# Altium integrated library ADLib_V16.IntLib: 56 symbols
Pins are listed as number, name and electrical type; pins without a type are passive.

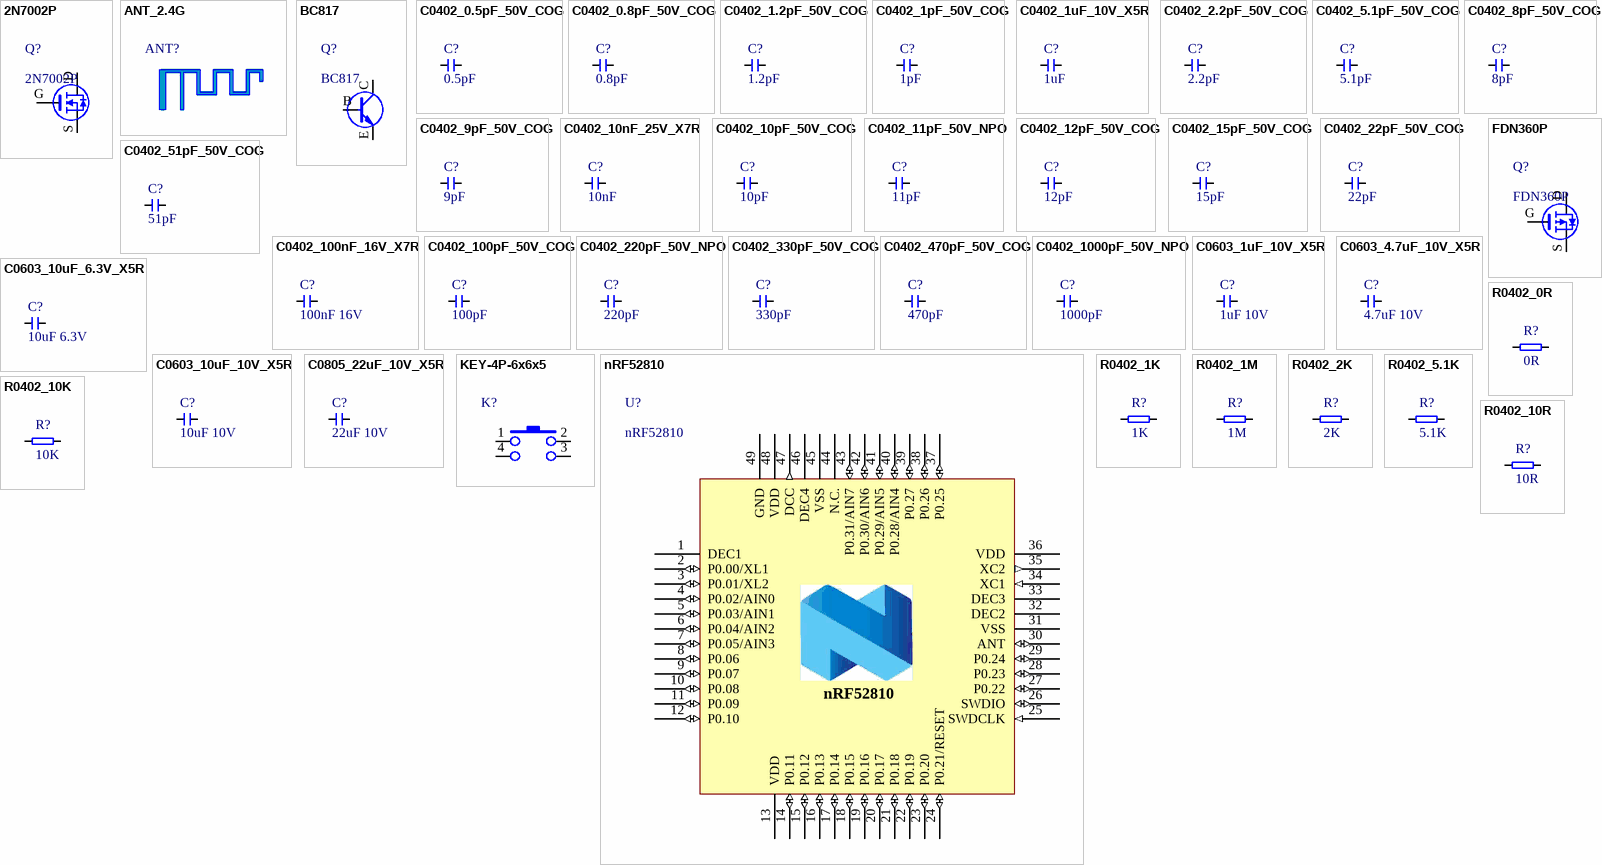
[diagram p0: symbols 2N7002P to R0402_10R]

## 2N7002P
designator Q?
TRS-FET/MOS N SOT23 ##2N7002P,215  NXP N; Part Number: 280400708-00000-10; SMT: YES; Price(RMB): 0.06; RoHS: YES; Datasheet(URL): https://pan.baidu.com/s/1gf8buuv; Common: YES; Supplier: NXP
footprint SOT23-GSD (SOT23, 3-Leads, Body 2.90x2.45mm, Pitch 0.95mm, IPC Medium Density)
pins: D, G, S

## ANT_2.4G
designator ANT?  (value not drawn)
Planar Inverted F Antenna
footprint ANT2G4-PCB-F (Inverted F antenna for 2402-2480Mhz)
pins: 1, 2

## BC817
designator Q?
TRS-BP NPN SOT23 BC817; Part Number: 280400175-00000-10; SMT: YES; Price(RMB): 0.06; RoHS: YES; Datasheet(URL): https://pan.baidu.com/s/1i5cjldz; Common: YES; Supplier: Any Brand
footprint SOT23-BEC (SOT23, 3-Leads, Body 2.90x2.45mm, Pitch 0.95mm, IPC Medium Density)
pins: B, C, E

## C0402_0.5pF_50V_COG
designator C?, comment 0.5pF
CAP-CCER 0.5 pF W 50 VDC 0402 COG ##GRM1; Part Number: 280202818-00000-10; SMT: YES; Common: NO; Price(RMB): 0.01; Supplier: Murata; RoHS: YES; Datasheet(URL): http://pan.baidu.com/s/1pLn1S19
footprint C0402 (Chip Capacitor, 2-Leads, Body 1.00x0.50mm, IPC Medium Density)
pins: 1, 2

## C0402_0.8pF_50V_COG
designator C?, comment 0.8pF
CAP-CCER 0.8 pF B 50 VDC 0402 COG ##GRM1; Part Number: 280203304-00000-10; Common: NO; SMT: YES; Price(RMB): 0.01; Datasheet(URL): http://pan.baidu.com/s/1pLn1S19; RoHS: YES; Supplier: Murata
footprint C0402 (Chip Capacitor, 2-Leads, Body 1.00x0.50mm, IPC Medium Density)
pins: 1, 2

## C0402_1.2pF_50V_COG
designator C?, comment 1.2pF
CAP-CCER 1.2 pF C 50 VDC 0402 COG ##GRM1; Part Number: 280200750-00000-10; SMT: YES; Common: NO; Price(RMB): 0.01; Supplier: Murata; RoHS: YES; Datasheet(URL): http://pan.baidu.com/s/1pLn1S19
footprint C0402 (Chip Capacitor, 2-Leads, Body 1.00x0.50mm, IPC Medium Density)
pins: 1, 2

## C0402_1pF_50V_COG
designator C?, comment 1pF
CAP-CCER 1 pF C 50 VDC 0402 COG ##GRM155; Part Number: 280202853-00000-10; SMT: YES; Common: NO; Price(RMB): 0.01; Supplier: Murata; RoHS: YES; Datasheet(URL): http://pan.baidu.com/s/1pLn1S19
footprint C0402 (Chip Capacitor, 2-Leads, Body 1.00x0.50mm, IPC Medium Density)
pins: 1, 2

## C0402_1uF_10V_X5R
designator C?, comment 1uF
CAP-CCER 1 uF K 10 VDC 0402 X5R ##GRM155; Part Number: 280202596-00000-10; Common: YES; Price(RMB): 0.01; SMT: YES; Supplier: Murata; RoHS: YES; Datasheet(URL): http://pan.baidu.com/s/1pLn1S19
footprint C0402 (Chip Capacitor, 2-Leads, Body 1.00x0.50mm, IPC Medium Density)
pins: 1, 2

## C0402_2.2pF_50V_COG
designator C?, comment 2.2pF
CAP-CCER 2.2 pF C 50 VDC 0402 COG; Part Number: 280200791-00000-10; SMT: YES; Common: NO; Price(RMB): 0.01; Supplier: Murata; RoHS: YES; Datasheet(URL): http://pan.baidu.com/s/1pLn1S19
footprint C0402 (Chip Capacitor, 2-Leads, Body 1.00x0.50mm, IPC Medium Density)
pins: 1, 2

## C0402_5.1pF_50V_COG
designator C?, comment 5.1pF
CAP-CCER 5.1 pF B 50 VDC 0402 SD 500R07S; Part Number: 280202923-00000-10; SMT: YES; Common: NO; Price(RMB): 0.01; Supplier: Murata; RoHS: YES; Datasheet(URL): http://pan.baidu.com/s/1pLn1S19
footprint C0402 (Chip Capacitor, 2-Leads, Body 1.00x0.50mm, IPC Medium Density)
pins: 1, 2

## C0402_8pF_50V_COG
designator C?, comment 8pF
CAP-CCER 8 pF C 50 VDC 0402 COG ##GRM155; Part Number: 280200885-00000-10; SMT: YES; Price(RMB): 0.01; Supplier: Murata; RoHS: YES; Common: YES; Datasheet(URL): http://pan.baidu.com/s/1pLn1S19
footprint C0402 (Chip Capacitor, 2-Leads, Body 1.00x0.50mm, IPC Medium Density)
pins: 1, 2

## C0402_9pF_50V_COG
designator C?, comment 9pF
CAP-CCER 9 pF D 50 VDC 0402 COG ##GRM155; Part Number: 280200896-00000-10; SMT: YES; Common: NO; Price(RMB): 0.01; Supplier: Murata; RoHS: YES; Datasheet(URL): http://pan.baidu.com/s/1pLn1S19
footprint C0402 (Chip Capacitor, 2-Leads, Body 1.00x0.50mm, IPC Medium Density)
pins: 1, 2

## C0402_10nF_25V_X7R
designator C?, comment 10nF
CAP-CCER 10 nF K 25 VDC 0402 X7R ##GRM15; Part Number: 280202443-00000-10; Common: NO; SMT: YES; Price(RMB): 0.01; Supplier: Murata; RoHS: YES; Datasheet(URL): http://pan.baidu.com/s/1pLn1S19
footprint C0402 (Chip Capacitor, 2-Leads, Body 1.00x0.50mm, IPC Medium Density)
pins: 1, 2

## C0402_10pF_50V_COG
designator C?, comment 10pF
CAP-CCER 10 pF J 50 VDC 0402 COG ##GRM15; Part Number: 280202735-00000-10; SMT: YES; Price(RMB): 0.01; Supplier: Murata; RoHS: YES; Common: YES; Datasheet(URL): http://pan.baidu.com/s/1pLn1S19
footprint C0402 (Chip Capacitor, 2-Leads, Body 1.00x0.50mm, IPC Medium Density)
pins: 1, 2

## C0402_11pF_50V_NPO
designator C?, comment 11pF
CAP-CCER 11 pF G 50 VDC 0402 NPO 500R07S; Part Number: 280202891-00000-10; SMT: YES; Common: NO; Price(RMB): 0.01; Supplier: Murata; RoHS: YES; Datasheet(URL): http://pan.baidu.com/s/1pLn1S19
footprint C0402 (Chip Capacitor, 2-Leads, Body 1.00x0.50mm, IPC Medium Density)
pins: 1, 2

## C0402_12pF_50V_COG
designator C?, comment 12pF
CAP-CCER 12 pF G 50 VDC 0402 COG ##GRM15; Part Number: 280203317-00000-10; Common: YES; Price(RMB): 0.01; RoHS: YES; SMT: YES; Supplier: Murata; Datasheet(URL): http://pan.baidu.com/s/1pLn1S19
footprint C0402 (Chip Capacitor, 2-Leads, Body 1.00x0.50mm, IPC Medium Density)
pins: 1, 2

## C0402_15pF_50V_COG
designator C?, comment 15pF
CAP-CCER 15 pF J 50 VDC 0402 COG ##GRM15; Part Number: 280200756-00000-10; Common: NO; SMT: YES; Price(RMB): 0.01; RoHS: YES; Supplier: Murata; Datasheet(URL): http://pan.baidu.com/s/1pLn1S19
footprint C0402 (Chip Capacitor, 2-Leads, Body 1.00x0.50mm, IPC Medium Density)
pins: 1, 2

## C0402_22pF_50V_COG
designator C?, comment 22pF
CAP-CCER 22 pF J 50 VDC 0402 COG ##GRM15; Part Number: 280202852-00000-10; Common: NO; SMT: YES; Price(RMB): 0.01; RoHS: YES; Supplier: Murata; Datasheet(URL): http://pan.baidu.com/s/1pLn1S19
footprint C0402 (Chip Capacitor, 2-Leads, Body 1.00x0.50mm, IPC Medium Density)
pins: 1, 2

## C0402_51pF_50V_COG
designator C?, comment 51pF
CAP-CCER 51 pF J 50 VDC 0402 COG GRM1555; Part Number: 280200854-00000-10; Common: NO; SMT: YES; Price(RMB): 0.01; RoHS: YES; Supplier: Murata; Datasheet(URL): http://pan.baidu.com/s/1pLn1S19
footprint C0402 (Chip Capacitor, 2-Leads, Body 1.00x0.50mm, IPC Medium Density)
pins: 1, 2

## C0402_100nF_16V_X7R
designator C?, comment 100nF 16V
CAP-CCER 100 nF K 16 VDC 0402 X7R ##GRM1; Part Number: 280200343-00000-10; Common: YES; Price(RMB): 0.01; SMT: YES; RoHS: YES; Supplier: Murata; Datasheet(URL): http://pan.baidu.com/s/1pLn1S19
footprint C0402 (Chip Capacitor, 2-Leads, Body 1.00x0.50mm, IPC Medium Density)
pins: 1, 2

## C0402_100pF_50V_COG
designator C?, comment 100pF
CAP-CCER 100 pF J 50 VDC 0402 COG ##GRM1; Part Number: 280200588-00000-10; Common: YES; Price(RMB): 0.01; SMT: YES; Supplier: Murata; RoHS: YES; Datasheet(URL): http://pan.baidu.com/s/1pLn1S19
footprint C0402 (Chip Capacitor, 2-Leads, Body 1.00x0.50mm, IPC Medium Density)
pins: 1, 2

## C0402_220pF_50V_NPO
designator C?, comment 220pF
CAP-CCER 220 pF J 50 VDC 0402 NPO ##GRM1; Part Number: 280200176-00000-10; Common: NO; SMT: YES; Price(RMB): 0.01; Supplier: Murata; RoHS: YES; Datasheet(URL): http://pan.baidu.com/s/1pLn1S19
footprint C0402 (Chip Capacitor, 2-Leads, Body 1.00x0.50mm, IPC Medium Density)
pins: 1, 2

## C0402_330pF_50V_COG
designator C?, comment 330pF
CAP-CCER 330 pF J 50 VDC 0402 COG ##GRM1; Part Number: 280200818-00000-10; Common: NO; SMT: YES; Price(RMB): 0.01; Supplier: Murata; RoHS: YES; Datasheet(URL): http://pan.baidu.com/s/1pLn1S19
footprint C0402 (Chip Capacitor, 2-Leads, Body 1.00x0.50mm, IPC Medium Density)
pins: 1, 2

## C0402_470pF_50V_COG
designator C?, comment 470pF
CAP-CCER 470 pF J 50 VDC 0402 COG ##GRM1; Part Number: 280200840-00000-10; Common: NO; SMT: YES; Price(RMB): 0.01; Supplier: Murata; RoHS: YES; Datasheet(URL): http://pan.baidu.com/s/1pLn1S19
footprint C0402 (Chip Capacitor, 2-Leads, Body 1.00x0.50mm, IPC Medium Density)
pins: 1, 2

## C0402_1000pF_50V_NPO
designator C?, comment 1000pF
CAP-CCER 1000 pF J 50 VDC 0402 NPO ##GRM; Part Number: 280200074-00000-10; Common: NO; SMT: YES; Price(RMB): 0.01; Supplier: Murata; RoHS: YES; Datasheet(URL): http://pan.baidu.com/s/1pLn1S19
footprint C0402 (Chip Capacitor, 2-Leads, Body 1.00x0.50mm, IPC Medium Density)
pins: 1, 2

## C0603_1uF_10V_X5R
designator C?, comment 1uF 10V
CAP-CCER 1 uF K 10 VDC 0603 X5R ##GRM188; Part Number: 280203310-00000-10; SMT: YES; Price(RMB): 0.015; RoHS: YES; Datasheet(URL): http://pan.baidu.com/s/1pLn1S19; Common: YES; Supplier: Murata
footprint C0603 (Chip Capacitor, 2-Leads, Body 1.60x0.80mm, IPC Medium Density)
pins: 1, 2

## C0603_4.7uF_10V_X5R
designator C?, comment 4.7uF 10V
CAP-CCER 4.7 uF K 10 VDC 0603 X5R ##GRM1; Part Number: 280202712-00000-10; SMT: YES; Price(RMB): 0.05; RoHS: YES; Datasheet(URL): http://pan.baidu.com/s/1pLn1S19; Common: YES; Supplier: Murata
footprint C0603 (Chip Capacitor, 2-Leads, Body 1.60x0.80mm, IPC Medium Density)
pins: 1, 2

## C0603_10uF_6.3V_X5R
designator C?, comment 10uF 6.3V
CAP-CCER 10 uF M 6.3 VDC 0603 X5R ##GRM1; Part Number: 280202589-00000-70; SMT: YES; Price(RMB): 0.05; RoHS: YES; Datasheet(URL): http://pan.baidu.com/s/1pLn1S19; Common: YES; Supplier: Murata
footprint C0603 (Chip Capacitor, 2-Leads, Body 1.60x0.80mm, IPC Medium Density)
pins: 1, 2

## C0603_10uF_10V_X5R
designator C?, comment 10uF 10V
CAP-CCER 10 uF K 10 VDC 0603 X5R ##GRM18; Part Number: 280203301-00000-10; SMT: YES; Price(RMB): 0.05; RoHS: YES; Datasheet(URL): http://pan.baidu.com/s/1pLn1S19; Common: YES; Supplier: Murata
footprint C0603 (Chip Capacitor, 2-Leads, Body 1.60x0.80mm, IPC Medium Density)
pins: 1, 2

## C0805_22uF_10V_X5R
designator C?, comment 22uF 10V
CAP-CCER 22 uF M 10 VDC 0805 X5R ##GRM21; Part Number: 280203306-00000-10; SMT: YES; Price(RMB): 0.12; RoHS: YES; Datasheet(URL): http://pan.baidu.com/s/1pLn1S19; Common: YES; Supplier: Murata
footprint C0805 (Chip Capacitor, 2-Leads, Body 2.00x1.25mm, IPC Medium Density)
pins: 1, 2

## FDN360P
designator Q?
TRS-FET/MOS P SOT23 FDN360P ##FAIRCHILD; Part Number: 280400690-00000-10; SMT: YES; Price(RMB): 0.43; RoHS: YES; Datasheet(URL): https://pan.baidu.com/s/1i4RtThN; Common: YES; Supplier: FAIRCHILD
footprint SOT23-GSD (SOT23, 3-Leads, Body 2.90x2.45mm, Pitch 0.95mm, IPC Medium Density)
pins: D, G, S

## KEY-4P-6x6x5
designator K?  (value not drawn)
SW-TACT SMD,KEY，Button,4 PIN,6x6x5mm; Part Number: 240400182-00001-10; SMT: YES; Price(RMB): 0.13; RoHS: YES; Datasheet(URL): https://pan.baidu.com/s/1eSEOYAI; Common: YES; Supplier: Any Brand
footprint KEY-4P-6x6x5 (KEY SMT 6x6x5mm)
pins: 1, 2, 3, 4

## nRF52810
designator U?
O-IC RF nRF52810 QFN48 6x6mm #nRF52810-QFAA; SMT: YES; Common: NO; Price(RMB): 6.0; RoHS: YES; Datasheet(URL): https://pan.baidu.com/s/1dFetmLV; Supplier: Nordic
footprint QFN48P6X6TP46X46 (QFN, 48-Leads, Body 6.00x6.00mm, Pitch 0.40mm, Thermal Pad 4.60x4.60mm, IPC Medium Density)
pins: 1 DEC1 (power), 2 P0.00/XL1 (io), 3 P0.01/XL2 (io), 4 P0.02/AIN0 (io), 5 P0.03/AIN1 (io), 6 P0.04/AIN2 (io), 7 P0.05/AIN3 (io), 8 P0.06 (io), 9 P0.07 (io), 10 P0.08 (io), 11 P0.09 (io), 12 P0.10 (io), 13 VDD (power), 14 P0.11 (io), 15 P0.12 (io), 16 P0.13 (io), 17 P0.14 (io), 18 P0.15 (io), 19 P0.16 (io), 20 P0.17 (io), 21 P0.18 (io), 22 P0.19 (io), 23 P0.20 (io), 24 P0.21/RESET (io), 25 SWDCLK (in), 26 SWDIO (io), 27 P0.22 (io), 28 P0.23 (io), 29 P0.24 (io), 30 ANT (io), 31 VSS (power), 32 DEC2 (power), 33 DEC3 (power), 34 XC1 (in), 35 XC2 (out), 36 VDD (power), 37 P0.25 (io), 38 P0.26 (io), 39 P0.27 (io), 40 P0.28/AIN4 (io), 41 P0.29/AIN5 (io), 42 P0.30/AIN6 (io), 43 P0.31/AIN7 (io), 44 N.C. (power), 45 VSS (power), 46 DEC4 (power), 47 DCC (out), 48 VDD (power), 49 GND (power)

## R0402_0R
designator R?, comment 0R
RES TFC 0 ohm 0402 J 1/16W; Part Number: 280102281-00000-10; SMT: YES; Price(RMB): 0.0024; RoHS: YES; Datasheet(URL): https://pan.baidu.com/s/1o7BAG4M; Common: YES; Supplier: Any brand
footprint R0402 (Chip Resistor, 2-Leads, Body 1.00x0.50mm, IPC Medium Density)
pins: 1, 2

## R0402_1K
designator R?, comment 1K
RES TFC 1 Kohm 0402 J 1/16W; Part Number: 280100925-00000-10; SMT: YES; Price(RMB): 0.0024; RoHS: YES; Datasheet(URL): https://pan.baidu.com/s/1o7BAG4M; Common: YES; Supplier: Any brand
footprint R0402 (Chip Resistor, 2-Leads, Body 1.00x0.50mm, IPC Medium Density)
pins: 1, 2

## R0402_1M
designator R?, comment 1M
RES TFC 1 Mohm 0402 J 1/16W; Part Number: 280100948-00000-10; SMT: YES; Common: NO; Price(RMB): 0.0024; RoHS: YES; Datasheet(URL): https://pan.baidu.com/s/1o7BAG4M; Supplier: Any brand
footprint R0402 (Chip Resistor, 2-Leads, Body 1.00x0.50mm, IPC Medium Density)
pins: 1, 2

## R0402_2K
designator R?, comment 2K
RES TFC 2 Kohm 0402 J 1/16W; Part Number: 280104286-00000-11; SMT: YES; Common: NO; Price(RMB): 0.0024; RoHS: YES; Datasheet(URL): https://pan.baidu.com/s/1o7BAG4M; Supplier: Any brand
footprint R0402 (Chip Resistor, 2-Leads, Body 1.00x0.50mm, IPC Medium Density)
pins: 1, 2

## R0402_5.1K
designator R?, comment 5.1K
RES TFC 5.1 Kohm 0402 J 1/16W; Part Number: 280101325-00000-10; SMT: YES; Price(RMB): 0.0024; RoHS: YES; Datasheet(URL): https://pan.baidu.com/s/1o7BAG4M; Common: YES; Supplier: Any brand
footprint R0402 (Chip Resistor, 2-Leads, Body 1.00x0.50mm, IPC Medium Density)
pins: 1, 2

## R0402_10K
designator R?, comment 10K
RES TFC 10 Kohm 0402 F 1/16W; Part Number: 280102244-00000-70; SMT: YES; Price(RMB): 0.0024; RoHS: YES; Datasheet(URL): https://pan.baidu.com/s/1o7BAG4M; Common: YES; Supplier: Any brand
footprint R0402 (Chip Resistor, 2-Leads, Body 1.00x0.50mm, IPC Medium Density)
pins: 1, 2

## R0402_10R
designator R?, comment 10R
RES TFC 10 ohm 0402 J 1/16W; Part Number: 280102247-00000-10; SMT: YES; Common: NO; Price(RMB): 0.0024; RoHS: YES; Datasheet(URL): https://pan.baidu.com/s/1o7BAG4M; Supplier: Any brand
footprint R0402 (Chip Resistor, 2-Leads, Body 1.00x0.50mm, IPC Medium Density)
pins: 1, 2

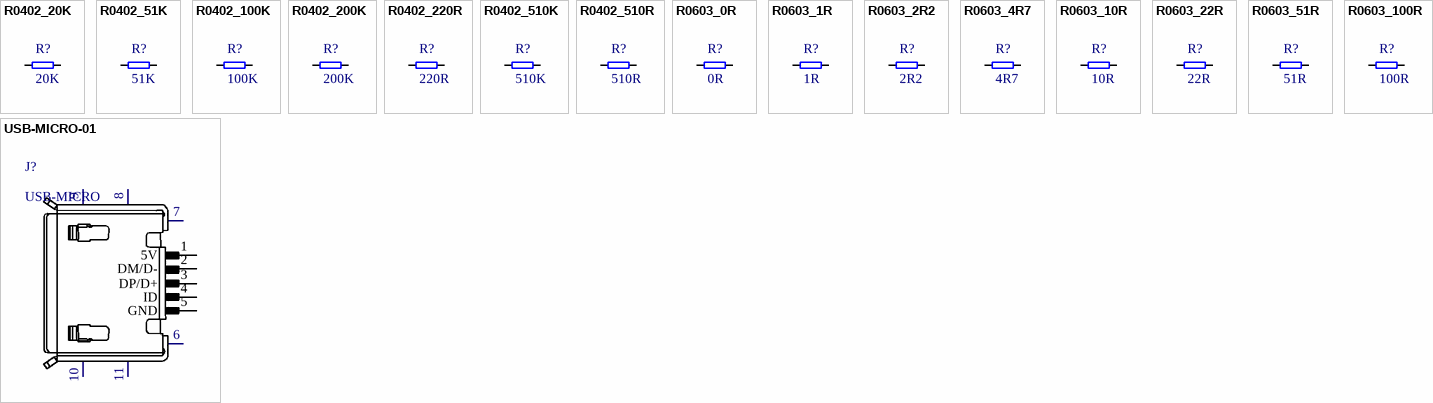
[diagram p1: symbols R0402_20K to USB-MICRO-01]

## R0402_20K
designator R?, comment 20K
RES TFC 20 Kohm 0402 J 1/16W; Part Number: 280101076-00000-10; SMT: YES; Common: NO; Price(RMB): 0.0024; RoHS: YES; Datasheet(URL): https://pan.baidu.com/s/1o7BAG4M; Supplier: Any brand
footprint R0402 (Chip Resistor, 2-Leads, Body 1.00x0.50mm, IPC Medium Density)
pins: 1, 2

## R0402_51K
designator R?, comment 51K
RES TFC 51 Kohm 0402 J 1/16W; Part Number: 280101329-00000-10; SMT: YES; Common: NO; Price(RMB): 0.0024; RoHS: YES; Datasheet(URL): https://pan.baidu.com/s/1o7BAG4M; Supplier: Any brand
footprint R0402 (Chip Resistor, 2-Leads, Body 1.00x0.50mm, IPC Medium Density)
pins: 1, 2

## R0402_100K
designator R?, comment 100K
RES TFC 100 Kohm 0402 B 1/16W; Part Number: 280104192-00000-10; SMT: YES; Price(RMB): 0.0024; RoHS: YES; Datasheet(URL): https://pan.baidu.com/s/1o7BAG4M; Common: YES; Supplier: Any brand
footprint R0402 (Chip Resistor, 2-Leads, Body 1.00x0.50mm, IPC Medium Density)
pins: 1, 2

## R0402_200K
designator R?, comment 200K
RES TFC 200 Kohm 0402 J 1/16W; Part Number: 280102687-00000-10; SMT: YES; Common: NO; Price(RMB): 0.0024; RoHS: YES; Datasheet(URL): https://pan.baidu.com/s/1o7BAG4M; Supplier: Any brand
footprint R0402 (Chip Resistor, 2-Leads, Body 1.00x0.50mm, IPC Medium Density)
pins: 1, 2

## R0402_220R
designator R?, comment 220R
RES TFC 220 ohm 0402 J 1/16W; Part Number: 280102311-00000-70; SMT: YES; Common: NO; Price(RMB): 0.0024; RoHS: YES; Datasheet(URL): https://pan.baidu.com/s/1o7BAG4M; Supplier: Any brand
footprint R0402 (Chip Resistor, 2-Leads, Body 1.00x0.50mm, IPC Medium Density)
pins: 1, 2

## R0402_510K
designator R?, comment 510K
RES TFC 510 Kohm 0402 F 1/16W; Part Number: 280103624-00000-10; SMT: YES; Common: NO; Price(RMB): 0.0024; RoHS: YES; Datasheet(URL): https://pan.baidu.com/s/1o7BAG4M; Supplier: Any brand
footprint R0402 (Chip Resistor, 2-Leads, Body 1.00x0.50mm, IPC Medium Density)
pins: 1, 2

## R0402_510R
designator R?, comment 510R
RES TFC 510 ohm 0402 J 1/16W; Part Number: 280102609-00000-10; SMT: YES; Common: NO; Price(RMB): 0.0024; RoHS: YES; Datasheet(URL): https://pan.baidu.com/s/1o7BAG4M; Supplier: Any brand
footprint R0402 (Chip Resistor, 2-Leads, Body 1.00x0.50mm, IPC Medium Density)
pins: 1, 2

## R0603_0R
designator R?, comment 0R
RES TFC 0 ohm 0603 J 1/10W; Part Number: 280102281-00000-10; SMT: YES; Price(RMB): 0.0024; RoHS: YES; Datasheet(URL): https://pan.baidu.com/s/1o7BAG4M; Common: YES; Supplier: Any brand
footprint R0603 (Chip Resistor, 2-Leads, Body 1.60x0.80mm, IPC Medium Density)
pins: 1, 2

## R0603_1R
designator R?, comment 1R
RES TFC 1 ohm 0603 J 1/10W; Part Number: 280100524-00000-10; SMT: YES; Common: NO; Price(RMB): 0.0024; RoHS: YES; Datasheet(URL): https://pan.baidu.com/s/1o7BAG4M; Supplier: Any brand
footprint R0603 (Chip Resistor, 2-Leads, Body 1.60x0.80mm, IPC Medium Density)
pins: 1, 2

## R0603_2R2
designator R?, comment 2R2
RES TFC 2.2 ohm 0603 J 1/10W; Part Number: 280101120-00000-10; SMT: YES; Common: NO; Price(RMB): 0.0024; RoHS: YES; Datasheet(URL): https://pan.baidu.com/s/1o7BAG4M; Supplier: Any brand
footprint R0603 (Chip Resistor, 2-Leads, Body 1.60x0.80mm, IPC Medium Density)
pins: 1, 2

## R0603_4R7
designator R?, comment 4R7
RES TFC 4.7 ohm 0603 F 1/10W; Part Number: 280104048-00000-10; SMT: YES; Common: NO; Price(RMB): 0.0024; RoHS: YES; Datasheet(URL): https://pan.baidu.com/s/1o7BAG4M; Supplier: Any brand
footprint R0603 (Chip Resistor, 2-Leads, Body 1.60x0.80mm, IPC Medium Density)
pins: 1, 2

## R0603_10R
designator R?, comment 10R
RES TFC 10 ohm 0603 J 1/10W; Part Number: 280100961-00000-10; SMT: YES; Common: NO; Price(RMB): 0.0024; RoHS: YES; Datasheet(URL): https://pan.baidu.com/s/1o7BAG4M; Supplier: Any brand
footprint R0603 (Chip Resistor, 2-Leads, Body 1.60x0.80mm, IPC Medium Density)
pins: 1, 2

## R0603_22R
designator R?, comment 22R
RES TFC 22 ohm 0603 J 1/10W; Part Number: 280104265-00000-10; SMT: YES; Common: NO; Price(RMB): 0.0024; RoHS: YES; Datasheet(URL): https://pan.baidu.com/s/1o7BAG4M; Supplier: Any brand
footprint R0603 (Chip Resistor, 2-Leads, Body 1.60x0.80mm, IPC Medium Density)
pins: 1, 2

## R0603_51R
designator R?, comment 51R
RES TFC 51 ohm 0603 F 1/10W; Part Number: 280101952-00000-10; SMT: YES; Common: NO; Price(RMB): 0.0024; RoHS: YES; Datasheet(URL): https://pan.baidu.com/s/1o7BAG4M; Supplier: Any brand
footprint R0603 (Chip Resistor, 2-Leads, Body 1.60x0.80mm, IPC Medium Density)
pins: 1, 2

## R0603_100R
designator R?, comment 100R
RES TFC 100 ohm 0603 J 1/10W; Part Number: 280100544-00000-10; SMT: YES; Common: NO; Price(RMB): 0.0024; RoHS: YES; Datasheet(URL): https://pan.baidu.com/s/1o7BAG4M; Supplier: Any brand
footprint R0603 (Chip Resistor, 2-Leads, Body 1.60x0.80mm, IPC Medium Density)
pins: 1, 2

## USB-MICRO-01
designator J?, comment USB-MICRO
Micro USB , Type B, SMT, with Shell Stakes #USB3080 GCT; Part Number: 240301708-00000-10; SMT: YES; Price(RMB): 0.32; RoHS: YES; Datasheet(URL): https://pan.baidu.com/s/1micJey8; Common: YES; Supplier: Any brand
footprint MICRO-USB-01 (Micro USB Receptacle, Type B, SMT, R/A,  Bottom Mount, optional Peg, with Shell Stakes #USB3080 GCT)
pins: 1 5V, 2 DM/D-, 3 DP/D+, 4 ID, 5 GND, 6 GND, 7 GND, 8 GND, 9 GND, 10 GND, 11 GND